# Altium schematic symbol library SMBJ33CA.SchLib: 1 symbol
Pins are listed as number, name and electrical type; pins without a type are passive.

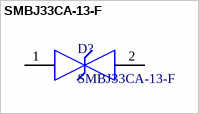
[diagram p0: symbol SMBJ33CA-13-F]

## SMBJ33CA-13-F
designator D?
TVS DIODE 33V 53.3V SMB
footprint FP-SMB-CA-MFG
pins: 1, 2